# Altium schematic symbol library ADP198ACPZ-R7.Schlib: 1 symbol
Pins are listed as number, name and electrical type; pins without a type are passive.

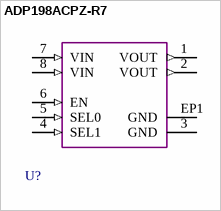
[diagram p0: symbol ADP198ACPZ-R7]

## ADP198ACPZ-R7
designator U?  (value not drawn)
pins: 1 VOUT (out), 2 VOUT (out), 3 GND, 4 SEL1 (in), 5 SEL0 (in), 6 EN (in), 7 VIN (in), 8 VIN (in), EP1 GND